# EAGLE library part MCP1725 (library intelliDesk)
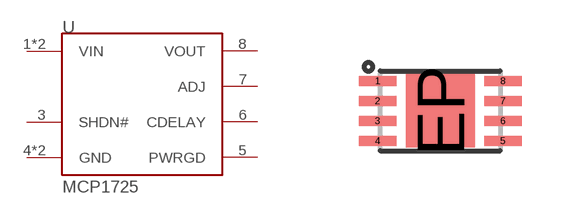
[diagram p2: symbol with the pads of 2X3_DFN; footprint 2X3_DFN]

Designator prefix -

## MCP1725  [2X3_DFN]
1  VIN
2  VIN
3  SHDN#
4  GND
5  PWRGD
6  CDELAY
7  ADJ
8  VOUT
EP  GND

## Footprint 2X3_DFN (pad centres in mm)
smd 0.94 x 0.25: 1 -1.57,0.75; 2 -1.57,0.25; 3 -1.57,-0.25; 4 -1.57,-0.75; 5 1.57,-0.75; 6 1.57,-0.25; 7 1.57,0.25; 8 1.57,0.75
smd 1.72 x 1.84: EP 0,0